# Altium schematic symbol library WL-SWTC.SchLib: 3 symbols
Pins are listed as number, name and electrical type; pins without a type are passive.

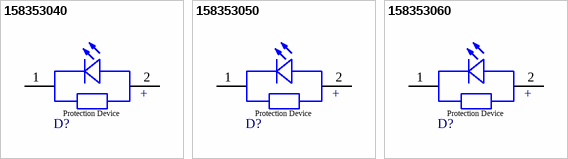
[diagram p0: symbols 158353040 to 158353060]

## 158353040
designator D?, comment Moonlight, 3.2V, 120°  (value not drawn)
WL-SWTC SMT White Top view Ceramic LED, size 3535, Moonlight, 3.2V, 120°; Manufacturer Part Number: 158353040; Manufacturer: Wurth Elektronik; Case/Size Code: 3535; Chip Technology: InGaN; Color Rendering Index: 75; Correlated Color Temperature: 4000K; Luminous Flux: 121lm; Category: General Lighting; Match Code: WL-SWTC; ComponentLink1Description: Website Link; ComponentLink1URL: https://www.we-online.com/redexpert/article/158353040?ad; ComponentLink2Description: Datasheet Link; ComponentLink2URL: https://www.we-online.com/redexpert/spec/158353040?ad; Mount: Surface Mount; Operating Temperature Max: 125°C; Operating Temperature Min: -40°C; Packaging: Tape and Reel; Length: 3.4mm; Width: 3.4mm; Height: 2.1mm; Emitting Color: Moonlight; Forward Voltage: 3.2V; Viewing Angle: 120°
footprint WL-SWTC_3535
simulation model 3535_158353040
pins: 1 K, 2 A
text: +; Protection Device

## 158353050
designator D?, comment Daylight, 3.2V, 120°  (value not drawn)
WL-SWTC SMT White Top view Ceramic LED, size 3535, Daylight, 3.2V, 120°; Manufacturer Part Number: 158353050; Manufacturer: Wurth Elektronik; Case/Size Code: 3535; Chip Technology: InGaN; Color Rendering Index: 70; Correlated Color Temperature: 5000K; Luminous Flux: 135lm; Category: General Lighting; Match Code: WL-SWTC; ComponentLink1Description: Website Link; ComponentLink1URL: https://www.we-online.com/redexpert/article/158353050?ad; ComponentLink2Description: Datasheet Link; ComponentLink2URL: https://www.we-online.com/redexpert/spec/158353050?ad; Mount: Surface Mount; Operating Temperature Max: 125°C; Operating Temperature Min: -40°C; Packaging: Tape and Reel; Length: 3.4mm; Width: 3.4mm; Height: 2.1mm; Emitting Color: Daylight; Forward Voltage: 3.2V; Viewing Angle: 120°
footprint WL-SWTC_3535
simulation model 3535_158353050
pins: 1 K, 2 A
text: +; Protection Device

## 158353060
designator D?, comment Cool White, 3.2V, 120°  (value not drawn)
WL-SWTC SMT White Top view Ceramic LED, size 3535, Cool White, 3.2V, 120°; Manufacturer Part Number: 158353060; Manufacturer: Wurth Elektronik; Case/Size Code: 3535; Chip Technology: InGaN; Color Rendering Index: 70; Correlated Color Temperature: 6000K; Luminous Flux: 135lm; Category: General Lighting; Match Code: WL-SWTC; ComponentLink1Description: Website Link; ComponentLink1URL: https://www.we-online.com/redexpert/article/158353060?ad; ComponentLink2Description: Datasheet Link; ComponentLink2URL: https://www.we-online.com/redexpert/spec/158353060?ad; Mount: Surface Mount; Operating Temperature Max: 125°C; Operating Temperature Min: -40°C; Packaging: Tape and Reel; Length: 3.4mm; Width: 3.4mm; Height: 2.1mm; Emitting Color: Cool White; Forward Voltage: 3.2V; Viewing Angle: 120°
footprint WL-SWTC_3535
simulation model 3535_158353060
pins: 1 K, 2 A
text: +; Protection Device